# EAGLE library part SN74FB2050 (library btl)
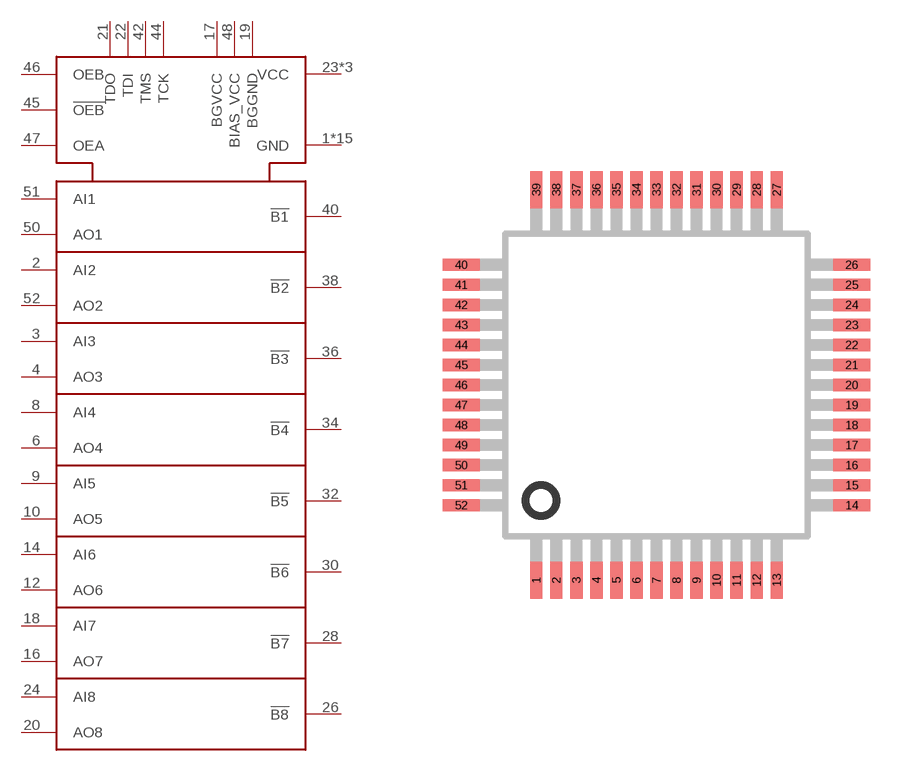
[diagram p0: symbol with the pads of TQFP-10X10-52; footprint TQFP-10X10-52]

Designator prefix -

## SN74FB2050  [TQFP-10X10-52]
1  GND
2  AI2
3  AI3
4  AO3
5  GND
6  AO4
7  GND
8  AI4
9  AI5
10  AO5
11  GND
12  AO6
13  GND
14  AI6
15  GND
16  AO7
17  BGVCC
18  AI7
19  BGGND
20  AO8
21  TDO
22  TDI
23  VCC
24  AI8
25  GND
26  !B8
27  GND
28  !B7
29  GND
30  !B6
31  GND
32  !B5
33  GND
34  !B4
35  GND
36  !B3
37  GND
38  !B2
39  GND
40  !B1
41  GND
42  TMS
43  VCC
44  TCK
45  !OEB
46  OEB
47  OEA
48  BIAS_VCC
49  VCC
50  AO1
51  AI1
52  AO2

## Footprint TQFP-10X10-52 (pad centres in mm)
TQFP52 Source: www.st.com/stonline/books/pdf/docs/9202.pdf
smd 0.4 x 1.2: 1 -3.9,-6.335; 2 -3.25,-6.335; 3 -2.6,-6.335; 4 -1.95,-6.335; 5 -1.3,-6.335; 6 -0.65,-6.335; 7 0,-6.335; 8 0.65,-6.335; 9 1.3,-6.335; 10 1.95,-6.335; 11 2.6,-6.335; 12 3.25,-6.335; 13 3.9,-6.335; 27 3.9,6.335; 28 3.25,6.335; 29 2.6,6.335; 30 1.95,6.335; 31 1.3,6.335; 32 0.65,6.335; 33 0,6.335; 34 -0.65,6.335; 35 -1.3,6.335; 36 -1.95,6.335; 37 -2.6,6.335; 38 -3.25,6.335; 39 -3.9,6.335
smd 1.2 x 0.4: 14 6.335,-3.9; 15 6.335,-3.25; 16 6.335,-2.6; 17 6.335,-1.95; 18 6.335,-1.3; 19 6.335,-0.65; 20 6.335,0; 21 6.335,0.65; 22 6.335,1.3; 23 6.335,1.95; 24 6.335,2.6; 25 6.335,3.25; 26 6.335,3.9; 40 -6.335,3.9; 41 -6.335,3.25; 42 -6.335,2.6; 43 -6.335,1.95; 44 -6.335,1.3; 45 -6.335,0.65; 46 -6.335,0; 47 -6.335,-0.65; 48 -6.335,-1.3; 49 -6.335,-1.95; 50 -6.335,-2.6; 51 -6.335,-3.25; 52 -6.335,-3.9